# EAGLE library part ATUC64 (library RalimTek)
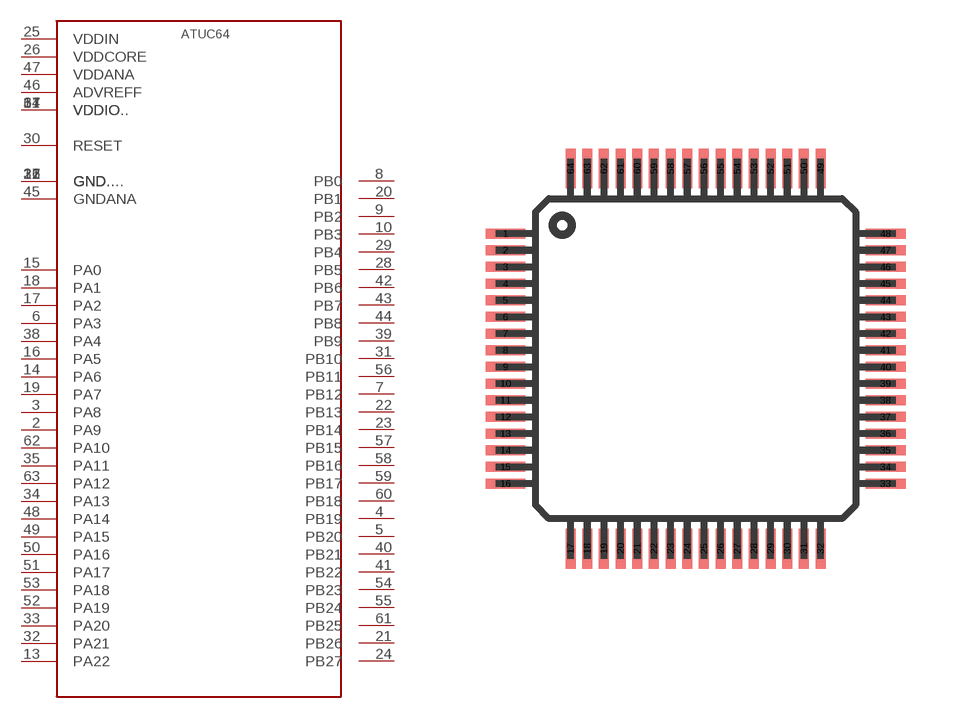
[diagram p38: symbol with the pads of TQFP64-10X10; footprint TQFP64-10X10]

Designator prefix UC

## ATUC64  [TQFP64-10X10]
1  GND
2  PA9
3  PA8
4  PB19
5  PB20
6  PA3
7  PB12
8  PB0
9  PB2
10  PB3
11  VDDIO
12  GND.
13  PA22
14  PA6
15  PA0
16  PA5
17  PA2
18  PA1
19  PA7
20  PB1
21  PB26
22  PB13
23  PB14
24  PB27
25  VDDIN
26  VDDCORE
27  GND..
28  PB5
29  PB4
30  RESET
31  PB10
32  PA21
33  PA20
34  PA13
35  PA11
36  GND....
37  VDDIO.
38  PA4
39  PB9
40  PB21
41  PB22
42  PB6
43  PB7
44  PB8
45  GNDANA
46  ADVREFF
47  VDDANA
48  PA14
49  PA15
50  PA16
51  PA17
52  PA19
53  PA18
54  PB23
55  PB24
56  PB11
57  PB15
58  PB16
59  PB17
60  PB18
61  PB25
62  PA10
63  PA12
64  VDDIO..

## Footprint TQFP64-10X10 (pad centres in mm)
Thin Quad Flat Pack package type TQ
smd 1.2 x 0.3: 1 -5.7,3.75; 2 -5.7,3.25; 3 -5.7,2.75; 4 -5.7,2.25; 5 -5.7,1.75; 6 -5.7,1.25; 7 -5.7,0.75; 8 -5.7,0.25; 9 -5.7,-0.25; 10 -5.7,-0.75; 11 -5.7,-1.25; 12 -5.7,-1.75; 13 -5.7,-2.25; 14 -5.7,-2.75; 15 -5.7,-3.25; 16 -5.7,-3.75; 33 5.7,-3.75; 34 5.7,-3.25; 35 5.7,-2.75; 36 5.7,-2.25; 37 5.7,-1.75; 38 5.7,-1.25; 39 5.7,-0.75; 40 5.7,-0.25; 41 5.7,0.25; 42 5.7,0.75; 43 5.7,1.25; 44 5.7,1.75; 45 5.7,2.25; 46 5.7,2.75; 47 5.7,3.25; 48 5.7,3.75
smd 0.3 x 1.2: 17 -3.75,-5.7; 18 -3.25,-5.7; 19 -2.75,-5.7; 20 -2.25,-5.7; 21 -1.75,-5.7; 22 -1.25,-5.7; 23 -0.75,-5.7; 24 -0.25,-5.7; 25 0.25,-5.7; 26 0.75,-5.7; 27 1.25,-5.7; 28 1.75,-5.7; 29 2.25,-5.7; 30 2.75,-5.7; 31 3.25,-5.7; 32 3.75,-5.7; 49 3.75,5.7; 50 3.25,5.7; 51 2.75,5.7; 52 2.25,5.7; 53 1.75,5.7; 54 1.25,5.7; 55 0.75,5.7; 56 0.25,5.7; 57 -0.25,5.7; 58 -0.75,5.7; 59 -1.25,5.7; 60 -1.75,5.7; 61 -2.25,5.7; 62 -2.75,5.7; 63 -3.25,5.7; 64 -3.75,5.7